# EAGLE library part I.MX286-BGA-289 (library comma.ai)
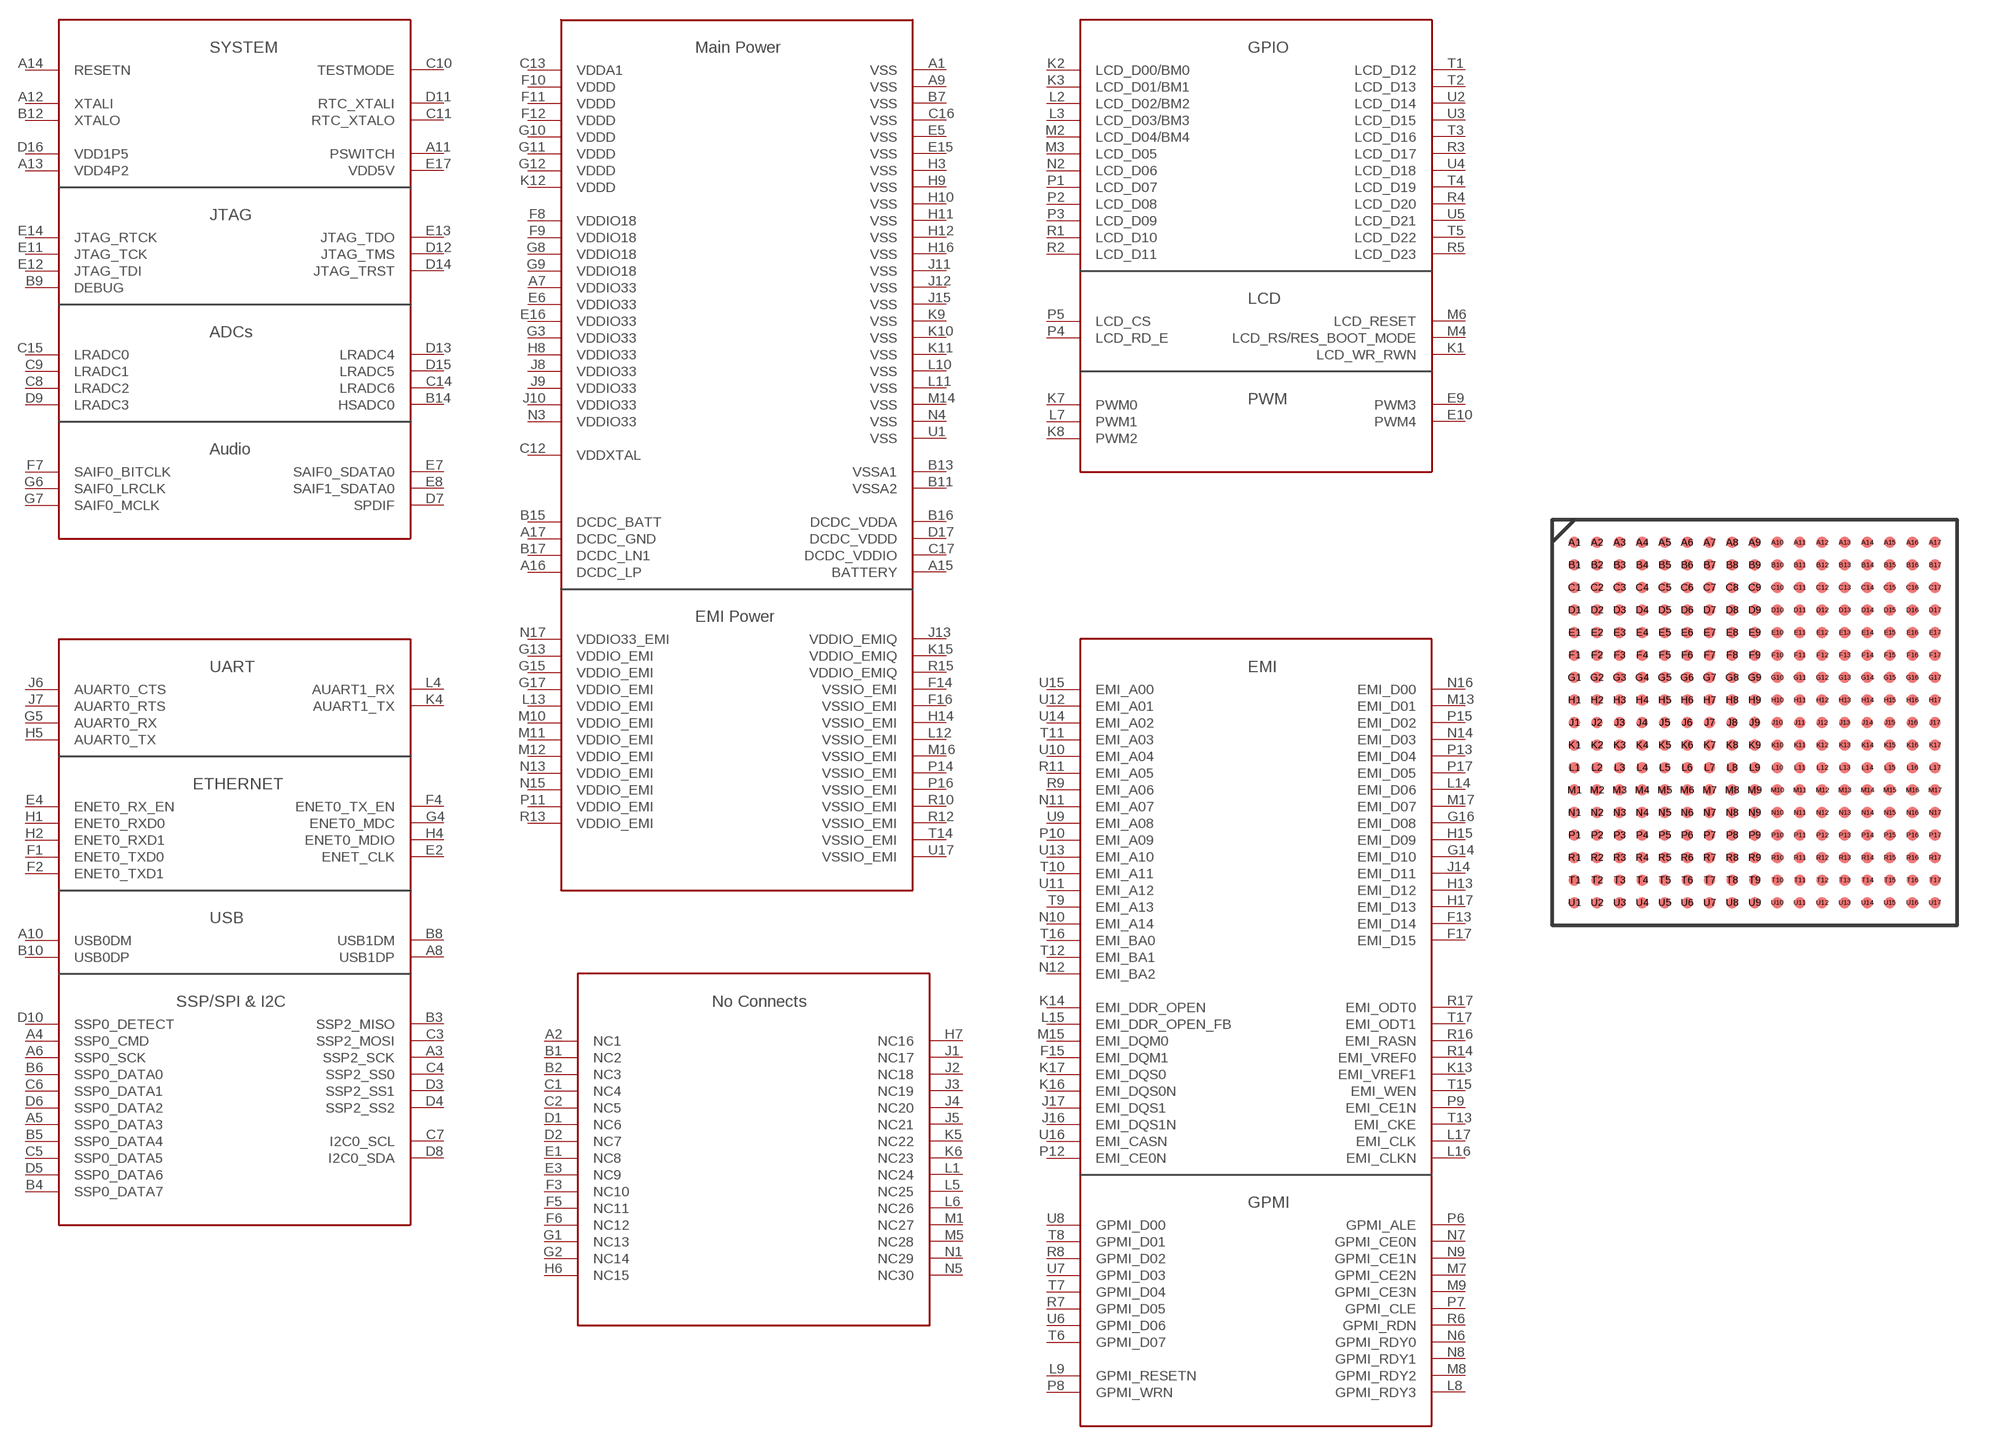
[diagram p0: symbol with the pads of BGA-289-AUTO; footprint BGA-289-AUTO]

Designator prefix -; gates G$1=MX286-SYSTEM G$2=MX286-POWER G$3=MX286-IO G$4=MX286-MEMORY G$5=MX286-COMMS G$6=MX286-NC

## I.MX286-BGA-289  [BGA-289-AUTO]
A1  G$2:VSS  pwr
A2  G$6:NC1  nc
A3  G$5:SSP2_SCK
A4  G$5:SSP0_CMD
A5  G$5:SSP0_DATA3
A6  G$5:SSP0_SCK
A7  G$2:VDDIO33  pwr
A8  G$5:USB1DP
A9  G$2:VSS  pwr
A10  G$5:USB0DM
A11  G$1:PSWITCH  out
A12  G$1:XTALI
A13  G$1:VDD4P2  out
A14  G$1:RESETN  in
A15  G$2:BATTERY  pwr
A16  G$2:DCDC_LP  pwr
A17  G$2:DCDC_GND  pwr
B1  G$6:NC2  nc
B2  G$6:NC3  nc
B3  G$5:SSP2_MISO
B4  G$5:SSP0_DATA7
B5  G$5:SSP0_DATA4
B6  G$5:SSP0_DATA0
B7  G$2:VSS  pwr
B8  G$5:USB1DM
B9  G$1:DEBUG
B10  G$5:USB0DP
B11  G$2:VSSA2  pwr
B12  G$1:XTALO
B13  G$2:VSSA1  pwr
B14  G$1:HSADC0
B15  G$2:DCDC_BATT  pwr
B16  G$2:DCDC_VDDA  pwr
B17  G$2:DCDC_LN1  pwr
C1  G$6:NC4  nc
C2  G$6:NC5  nc
C3  G$5:SSP2_MOSI
C4  G$5:SSP2_SS0
C5  G$5:SSP0_DATA5
C6  G$5:SSP0_DATA1
C7  G$5:I2C0_SCL
C8  G$1:LRADC2
C9  G$1:LRADC1
C10  G$1:TESTMODE  in
C11  G$1:RTC_XTALO
C12  G$2:VDDXTAL  pwr
C13  G$2:VDDA1  pwr
C14  G$1:LRADC6
C15  G$1:LRADC0
C16  G$2:VSS  pwr
C17  G$2:DCDC_VDDIO  pwr
D1  G$6:NC6  nc
D2  G$6:NC7  nc
D3  G$5:SSP2_SS1
D4  G$5:SSP2_SS2
D5  G$5:SSP0_DATA6
D6  G$5:SSP0_DATA2
D7  G$1:SPDIF
D8  G$5:I2C0_SDA
D9  G$1:LRADC3
D10  G$5:SSP0_DETECT
D11  G$1:RTC_XTALI
D12  G$1:JTAG_TMS
D13  G$1:LRADC4
D14  G$1:JTAG_TRST
D15  G$1:LRADC5
D16  G$1:VDD1P5  out
D17  G$2:DCDC_VDDD  pwr
E1  G$6:NC8  nc
E2  G$5:ENET_CLK
E3  G$6:NC9  nc
E4  G$5:ENET0_RX_EN
E5  G$2:VSS  pwr
E6  G$2:VDDIO33  pwr
E7  G$1:SAIF0_SDATA0
E8  G$1:SAIF1_SDATA0
E9  G$3:PWM3
E10  G$3:PWM4
E11  G$1:JTAG_TCK
E12  G$1:JTAG_TDI
E13  G$1:JTAG_TDO
E14  G$1:JTAG_RTCK
E15  G$2:VSS  pwr
E16  G$2:VDDIO33  pwr
E17  G$1:VDD5V
F1  G$5:ENET0_TXD0
F2  G$5:ENET0_TXD1
F3  G$6:NC10  nc
F4  G$5:ENET0_TX_EN
F5  G$6:NC11  nc
F6  G$6:NC12  nc
F7  G$1:SAIF0_BITCLK
F8  G$2:VDDIO18  pwr
F9  G$2:VDDIO18  pwr
F10  G$2:VDDD  pwr
F11  G$2:VDDD  pwr
F12  G$2:VDDD  pwr
F13  G$4:EMI_D14
F14  G$2:VSSIO_EMI  pwr
F15  G$4:EMI_DQM1
F16  G$2:VSSIO_EMI  pwr
F17  G$4:EMI_D15
G1  G$6:NC13  nc
G2  G$6:NC14  nc
G3  G$2:VDDIO33  pwr
G4  G$5:ENET0_MDC
G5  G$5:AUART0_RX
G6  G$1:SAIF0_LRCLK
G7  G$1:SAIF0_MCLK
G8  G$2:VDDIO18  pwr
G9  G$2:VDDIO18  pwr
G10  G$2:VDDD  pwr
G11  G$2:VDDD  pwr
G12  G$2:VDDD  pwr
G13  G$2:VDDIO_EMI  pwr
G14  G$4:EMI_D10
G15  G$2:VDDIO_EMI  pwr
G16  G$4:EMI_D08
G17  G$2:VDDIO_EMI  pwr
H1  G$5:ENET0_RXD0
H2  G$5:ENET0_RXD1
H3  G$2:VSS  pwr
H4  G$5:ENET0_MDIO
H5  G$5:AUART0_TX
H6  G$6:NC15  nc
H7  G$6:NC16  nc
H8  G$2:VDDIO33  pwr
H9  G$2:VSS  pwr
H10  G$2:VSS  pwr
H11  G$2:VSS  pwr
H12  G$2:VSS  pwr
H13  G$4:EMI_D12
H14  G$2:VSSIO_EMI  pwr
H15  G$4:EMI_D09
H16  G$2:VSS  pwr
H17  G$4:EMI_D13
J1  G$6:NC17  nc
J2  G$6:NC18  nc
J3  G$6:NC19  nc
J4  G$6:NC20  nc
J5  G$6:NC21  nc
J6  G$5:AUART0_CTS
J7  G$5:AUART0_RTS
J8  G$2:VDDIO33  pwr
J9  G$2:VDDIO33  pwr
J10  G$2:VDDIO33  pwr
J11  G$2:VSS  pwr
J12  G$2:VSS  pwr
J13  G$2:VDDIO_EMIQ  pwr
J14  G$4:EMI_D11
J15  G$2:VSS  pwr
J16  G$4:EMI_DQS1N
J17  G$4:EMI_DQS1
K1  G$3:LCD_WR_RWN
K2  G$3:LCD_D00/BM0
K3  G$3:LCD_D01/BM1
K4  G$5:AUART1_TX
K5  G$6:NC22  nc
K6  G$6:NC23  nc
K7  G$3:PWM0
K8  G$3:PWM2
K9  G$2:VSS  pwr
K10  G$2:VSS  pwr
K11  G$2:VSS  pwr
K12  G$2:VDDD  pwr
K13  G$4:EMI_VREF1
K14  G$4:EMI_DDR_OPEN
K15  G$2:VDDIO_EMIQ  pwr
K16  G$4:EMI_DQS0N
K17  G$4:EMI_DQS0
L1  G$6:NC24  nc
L2  G$3:LCD_D02/BM2
L3  G$3:LCD_D03/BM3
L4  G$5:AUART1_RX
L5  G$6:NC25  nc
L6  G$6:NC26  nc
L7  G$3:PWM1
L8  G$4:GPMI_RDY3
L9  G$4:GPMI_RESETN
L10  G$2:VSS  pwr
L11  G$2:VSS  pwr
L12  G$2:VSSIO_EMI  pwr
L13  G$2:VDDIO_EMI  pwr
L14  G$4:EMI_D06
L15  G$4:EMI_DDR_OPEN_FB
L16  G$4:EMI_CLKN
L17  G$4:EMI_CLK
M1  G$6:NC27  nc
M2  G$3:LCD_D04/BM4
M3  G$3:LCD_D05
M4  G$3:LCD_RS/RES_BOOT_MODE
M5  G$6:NC28  nc
M6  G$3:LCD_RESET
M7  G$4:GPMI_CE2N
M8  G$4:GPMI_RDY2
M9  G$4:GPMI_CE3N
M10  G$2:VDDIO_EMI  pwr
M11  G$2:VDDIO_EMI  pwr
M12  G$2:VDDIO_EMI  pwr
M13  G$4:EMI_D01
M14  G$2:VSS  pwr
M15  G$4:EMI_DQM0
M16  G$2:VSSIO_EMI  pwr
M17  G$4:EMI_D07
N1  G$6:NC29  nc
N2  G$3:LCD_D06
N3  G$2:VDDIO33  pwr
N4  G$2:VSS  pwr
N5  G$6:NC30  nc
N6  G$4:GPMI_RDY0
N7  G$4:GPMI_CE0N
N8  G$4:GPMI_RDY1
N9  G$4:GPMI_CE1N
N10  G$4:EMI_A14
N11  G$4:EMI_A07
N12  G$4:EMI_BA2
N13  G$2:VDDIO_EMI  pwr
N14  G$4:EMI_D03
N15  G$2:VDDIO_EMI  pwr
N16  G$4:EMI_D00
N17  G$2:VDDIO33_EMI  pwr
P1  G$3:LCD_D07
P2  G$3:LCD_D08
P3  G$3:LCD_D09
P4  G$3:LCD_RD_E
P5  G$3:LCD_CS
P6  G$4:GPMI_ALE
P7  G$4:GPMI_CLE
P8  G$4:GPMI_WRN
P9  G$4:EMI_CE1N
P10  G$4:EMI_A09
P11  G$2:VDDIO_EMI  pwr
P12  G$4:EMI_CE0N
P13  G$4:EMI_D04
P14  G$2:VSSIO_EMI  pwr
P15  G$4:EMI_D02
P16  G$2:VSSIO_EMI  pwr
P17  G$4:EMI_D05
R1  G$3:LCD_D10
R2  G$3:LCD_D11
R3  G$3:LCD_D17
R4  G$3:LCD_D20
R5  G$3:LCD_D23
R6  G$4:GPMI_RDN
R7  G$4:GPMI_D05
R8  G$4:GPMI_D02
R9  G$4:EMI_A06
R10  G$2:VSSIO_EMI  pwr
R11  G$4:EMI_A05
R12  G$2:VSSIO_EMI  pwr
R13  G$2:VDDIO_EMI  pwr
R14  G$4:EMI_VREF0
R15  G$2:VDDIO_EMIQ  pwr
R16  G$4:EMI_RASN
R17  G$4:EMI_ODT0
T1  G$3:LCD_D12
T2  G$3:LCD_D13
T3  G$3:LCD_D16
T4  G$3:LCD_D19
T5  G$3:LCD_D22
T6  G$4:GPMI_D07
T7  G$4:GPMI_D04
T8  G$4:GPMI_D01
T9  G$4:EMI_A13
T10  G$4:EMI_A11
T11  G$4:EMI_A03
T12  G$4:EMI_BA1
T13  G$4:EMI_CKE
T14  G$2:VSSIO_EMI  pwr
T15  G$4:EMI_WEN
T16  G$4:EMI_BA0
T17  G$4:EMI_ODT1
U1  G$2:VSS  pwr
U2  G$3:LCD_D14
U3  G$3:LCD_D15
U4  G$3:LCD_D18
U5  G$3:LCD_D21
U6  G$4:GPMI_D06
U7  G$4:GPMI_D03
U8  G$4:GPMI_D00
U9  G$4:EMI_A08
U10  G$4:EMI_A04
U11  G$4:EMI_A12
U12  G$4:EMI_A01
U13  G$4:EMI_A10
U14  G$4:EMI_A02
U15  G$4:EMI_A00
U16  G$4:EMI_CASN
U17  G$2:VSSIO_EMI  pwr

## Footprint BGA-289-AUTO (pad centres in mm)
smd 0.4 x 0.4: A1 0.8,-0.8; A2 1.6,-0.8; A3 2.4,-0.8; A4 3.2,-0.8; A5 4,-0.8; A6 4.8,-0.8; A7 5.6,-0.8; A8 6.4,-0.8; A9 7.2,-0.8; A10 8,-0.8; A11 8.8,-0.8; A12 9.6,-0.8; A13 10.4,-0.8; A14 11.2,-0.8; A15 12,-0.8; A16 12.8,-0.8; A17 13.6,-0.8; B1 0.8,-1.6; B2 1.6,-1.6; B3 2.4,-1.6; B4 3.2,-1.6; B5 4,-1.6; B6 4.8,-1.6; B7 5.6,-1.6; B8 6.4,-1.6; B9 7.2,-1.6; B10 8,-1.6; B11 8.8,-1.6; B12 9.6,-1.6; B13 10.4,-1.6; B14 11.2,-1.6; B15 12,-1.6; B16 12.8,-1.6; B17 13.6,-1.6; C1 0.8,-2.4; C2 1.6,-2.4; C3 2.4,-2.4; C4 3.2,-2.4; C5 4,-2.4; C6 4.8,-2.4; C7 5.6,-2.4; C8 6.4,-2.4; C9 7.2,-2.4; C10 8,-2.4; C11 8.8,-2.4; C12 9.6,-2.4; C13 10.4,-2.4; C14 11.2,-2.4; C15 12,-2.4; C16 12.8,-2.4; C17 13.6,-2.4; D1 0.8,-3.2; D2 1.6,-3.2; D3 2.4,-3.2; D4 3.2,-3.2; D5 4,-3.2; D6 4.8,-3.2; D7 5.6,-3.2; D8 6.4,-3.2; D9 7.2,-3.2; D10 8,-3.2; D11 8.8,-3.2; D12 9.6,-3.2; D13 10.4,-3.2; D14 11.2,-3.2; D15 12,-3.2; D16 12.8,-3.2; D17 13.6,-3.2; E1 0.8,-4; E2 1.6,-4; E3 2.4,-4; E4 3.2,-4; E5 4,-4; E6 4.8,-4; E7 5.6,-4; E8 6.4,-4; E9 7.2,-4; E10 8,-4; E11 8.8,-4; E12 9.6,-4; E13 10.4,-4; E14 11.2,-4; E15 12,-4; E16 12.8,-4; E17 13.6,-4; F1 0.8,-4.8; F2 1.6,-4.8; F3 2.4,-4.8; F4 3.2,-4.8; F5 4,-4.8; F6 4.8,-4.8; F7 5.6,-4.8; F8 6.4,-4.8; F9 7.2,-4.8; F10 8,-4.8; F11 8.8,-4.8; F12 9.6,-4.8; F13 10.4,-4.8; F14 11.2,-4.8; F15 12,-4.8; F16 12.8,-4.8; F17 13.6,-4.8; G1 0.8,-5.6; G2 1.6,-5.6; G3 2.4,-5.6; G4 3.2,-5.6; G5 4,-5.6; G6 4.8,-5.6; G7 5.6,-5.6; G8 6.4,-5.6; G9 7.2,-5.6; G10 8,-5.6; G11 8.8,-5.6; G12 9.6,-5.6; G13 10.4,-5.6; G14 11.2,-5.6; G15 12,-5.6; G16 12.8,-5.6; G17 13.6,-5.6; H1 0.8,-6.4; H2 1.6,-6.4; H3 2.4,-6.4; H4 3.2,-6.4; H5 4,-6.4; H6 4.8,-6.4; H7 5.6,-6.4; H8 6.4,-6.4; H9 7.2,-6.4; H10 8,-6.4; H11 8.8,-6.4; H12 9.6,-6.4; H13 10.4,-6.4; H14 11.2,-6.4; H15 12,-6.4; H16 12.8,-6.4; H17 13.6,-6.4; J1 0.8,-7.2; J2 1.6,-7.2; J3 2.4,-7.2; J4 3.2,-7.2; J5 4,-7.2; J6 4.8,-7.2; J7 5.6,-7.2; J8 6.4,-7.2; J9 7.2,-7.2; J10 8,-7.2; J11 8.8,-7.2; J12 9.6,-7.2; J13 10.4,-7.2; J14 11.2,-7.2; J15 12,-7.2; J16 12.8,-7.2; J17 13.6,-7.2; K1 0.8,-8; K2 1.6,-8; K3 2.4,-8; K4 3.2,-8; K5 4,-8; K6 4.8,-8; K7 5.6,-8; K8 6.4,-8; K9 7.2,-8; K10 8,-8; K11 8.8,-8; K12 9.6,-8; K13 10.4,-8; K14 11.2,-8; K15 12,-8; K16 12.8,-8; K17 13.6,-8; L1 0.8,-8.8; L2 1.6,-8.8; L3 2.4,-8.8; L4 3.2,-8.8; L5 4,-8.8; L6 4.8,-8.8; L7 5.6,-8.8; L8 6.4,-8.8; L9 7.2,-8.8; L10 8,-8.8; L11 8.8,-8.8; L12 9.6,-8.8; L13 10.4,-8.8; L14 11.2,-8.8; L15 12,-8.8; L16 12.8,-8.8; L17 13.6,-8.8; M1 0.8,-9.6; M2 1.6,-9.6; M3 2.4,-9.6; M4 3.2,-9.6; M5 4,-9.6; M6 4.8,-9.6; M7 5.6,-9.6; M8 6.4,-9.6; M9 7.2,-9.6; M10 8,-9.6; M11 8.8,-9.6; M12 9.6,-9.6; M13 10.4,-9.6; M14 11.2,-9.6; M15 12,-9.6; M16 12.8,-9.6; M17 13.6,-9.6; N1 0.8,-10.4; N2 1.6,-10.4; N3 2.4,-10.4; N4 3.2,-10.4; N5 4,-10.4; N6 4.8,-10.4; N7 5.6,-10.4; N8 6.4,-10.4; N9 7.2,-10.4; N10 8,-10.4; N11 8.8,-10.4; N12 9.6,-10.4; N13 10.4,-10.4; N14 11.2,-10.4; N15 12,-10.4; N16 12.8,-10.4; N17 13.6,-10.4; P1 0.8,-11.2; P2 1.6,-11.2; P3 2.4,-11.2; P4 3.2,-11.2; P5 4,-11.2; P6 4.8,-11.2; P7 5.6,-11.2; P8 6.4,-11.2; P9 7.2,-11.2; P10 8,-11.2; P11 8.8,-11.2; P12 9.6,-11.2; P13 10.4,-11.2; P14 11.2,-11.2; P15 12,-11.2; P16 12.8,-11.2; P17 13.6,-11.2; R1 0.8,-12; R2 1.6,-12; R3 2.4,-12; R4 3.2,-12; R5 4,-12; R6 4.8,-12; R7 5.6,-12; R8 6.4,-12; R9 7.2,-12; R10 8,-12; R11 8.8,-12; R12 9.6,-12; R13 10.4,-12; R14 11.2,-12; R15 12,-12; R16 12.8,-12; R17 13.6,-12; T1 0.8,-12.8; T2 1.6,-12.8; T3 2.4,-12.8; T4 3.2,-12.8; T5 4,-12.8; T6 4.8,-12.8; T7 5.6,-12.8; T8 6.4,-12.8; T9 7.2,-12.8; T10 8,-12.8; T11 8.8,-12.8; T12 9.6,-12.8; T13 10.4,-12.8; T14 11.2,-12.8; T15 12,-12.8; T16 12.8,-12.8; T17 13.6,-12.8; U1 0.8,-13.6; U2 1.6,-13.6; U3 2.4,-13.6; U4 3.2,-13.6; U5 4,-13.6; U6 4.8,-13.6; U7 5.6,-13.6; U8 6.4,-13.6; U9 7.2,-13.6; U10 8,-13.6; U11 8.8,-13.6; U12 9.6,-13.6; U13 10.4,-13.6; U14 11.2,-13.6; U15 12,-13.6; U16 12.8,-13.6; U17 13.6,-13.6